# Altium schematic symbol library SCH - ARM CORTEX - STM STM8AL318ATx.SchLib: 1 symbol
Pins are listed as number, name and electrical type; pins without a type are passive.

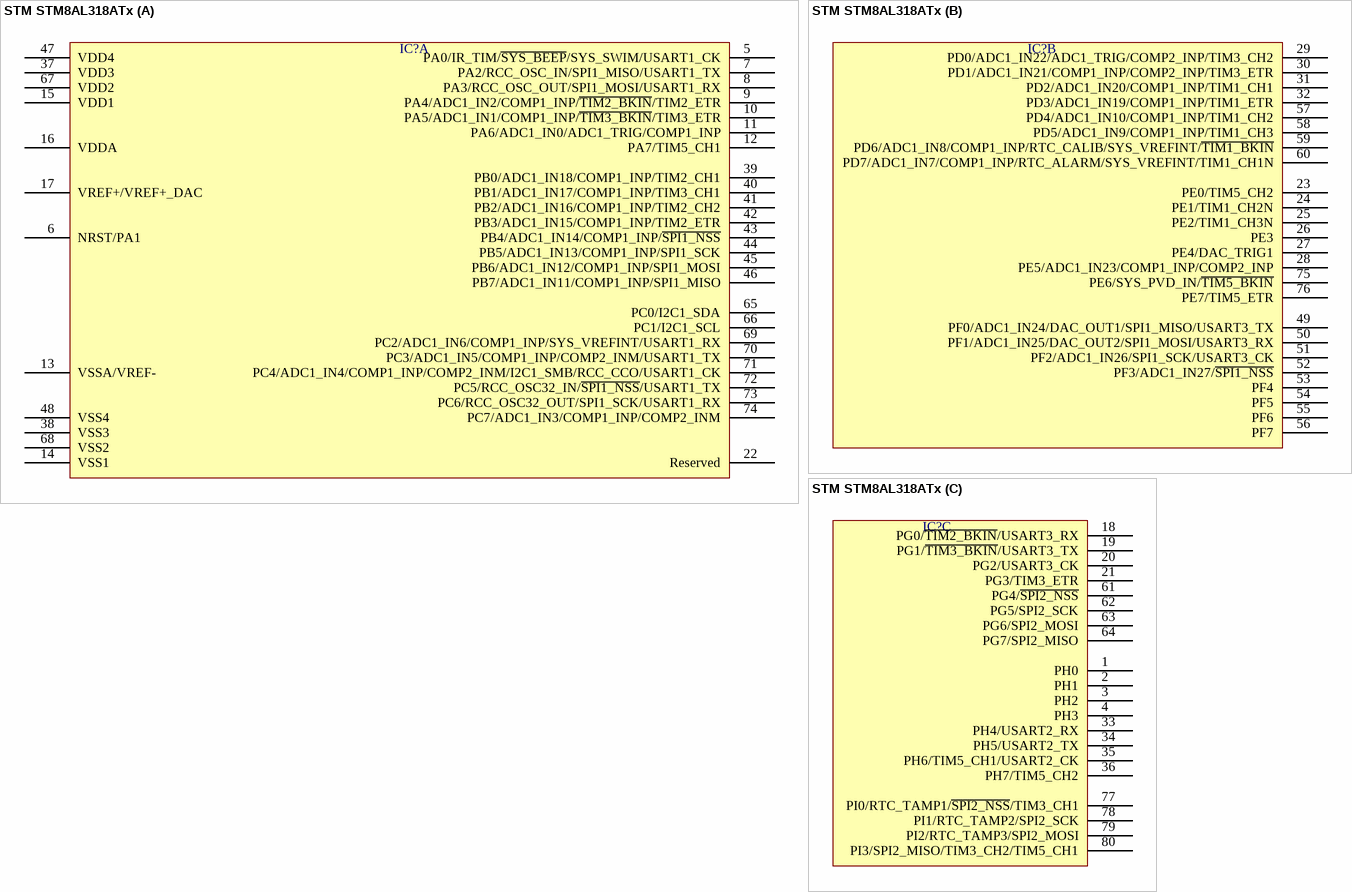
[diagram p0: symbol STM STM8AL318ATx]

## STM STM8AL318ATx
designator IC?  (value not drawn)
part A pins: 5 PA0/IR_TIM/~{SYS_BEEP}/SYS_SWIM/USART1_CK, 6 NRST/PA1, 7 PA2/RCC_OSC_IN/SPI1_MISO/USART1_TX, 8 PA3/RCC_OSC_OUT/SPI1_MOSI/USART1_RX, 9 PA4/ADC1_IN2/COMP1_INP/~{TIM2_BKIN}/TIM2_ETR, 10 PA5/ADC1_IN1/COMP1_INP/~{TIM3_BKIN}/TIM3_ETR, 11 PA6/ADC1_IN0/ADC1_TRIG/COMP1_INP, 12 PA7/TIM5_CH1, 13 VSSA/VREF-, 14 VSS1, 15 VDD1, 16 VDDA, 17 VREF+/VREF+_DAC, 22 Reserved, 37 VDD3, 38 VSS3, 39 PB0/ADC1_IN18/COMP1_INP/TIM2_CH1, 40 PB1/ADC1_IN17/COMP1_INP/TIM3_CH1, 41 PB2/ADC1_IN16/COMP1_INP/TIM2_CH2, 42 PB3/ADC1_IN15/COMP1_INP/TIM2_ETR, 43 PB4/ADC1_IN14/COMP1_INP/~{SPI1_NSS}, 44 PB5/ADC1_IN13/COMP1_INP/SPI1_SCK, 45 PB6/ADC1_IN12/COMP1_INP/SPI1_MOSI, 46 PB7/ADC1_IN11/COMP1_INP/SPI1_MISO, 47 VDD4, 48 VSS4, 65 PC0/I2C1_SDA, 66 PC1/I2C1_SCL, 67 VDD2, 68 VSS2, 69 PC2/ADC1_IN6/COMP1_INP/SYS_VREFINT/USART1_RX, 70 PC3/ADC1_IN5/COMP1_INP/COMP2_INM/USART1_TX, 71 PC4/ADC1_IN4/COMP1_INP/COMP2_INM/I2C1_SMB/RCC_CCO/USART1_CK, 72 PC5/RCC_OSC32_IN/~{SPI1_NSS}/USART1_TX, 73 PC6/RCC_OSC32_OUT/SPI1_SCK/USART1_RX, 74 PC7/ADC1_IN3/COMP1_INP/COMP2_INM
part B pins: 23 PE0/TIM5_CH2, 24 PE1/TIM1_CH2N, 25 PE2/TIM1_CH3N, 26 PE3, 27 PE4/DAC_TRIG1, 28 PE5/ADC1_IN23/COMP1_INP/COMP2_INP, 29 PD0/ADC1_IN22/ADC1_TRIG/COMP2_INP/TIM3_CH2, 30 PD1/ADC1_IN21/COMP1_INP/COMP2_INP/TIM3_ETR, 31 PD2/ADC1_IN20/COMP1_INP/TIM1_CH1, 32 PD3/ADC1_IN19/COMP1_INP/TIM1_ETR, 49 PF0/ADC1_IN24/DAC_OUT1/SPI1_MISO/USART3_TX, 50 PF1/ADC1_IN25/DAC_OUT2/SPI1_MOSI/USART3_RX, 51 PF2/ADC1_IN26/SPI1_SCK/USART3_CK, 52 PF3/ADC1_IN27/~{SPI1_NSS}, 53 PF4, 54 PF5, 55 PF6, 56 PF7, 57 PD4/ADC1_IN10/COMP1_INP/TIM1_CH2, 58 PD5/ADC1_IN9/COMP1_INP/TIM1_CH3, 59 PD6/ADC1_IN8/COMP1_INP/RTC_CALIB/SYS_VREFINT/~{TIM1_BKIN}, 60 PD7/ADC1_IN7/COMP1_INP/RTC_ALARM/SYS_VREFINT/TIM1_CH1N, 75 PE6/SYS_PVD_IN/~{TIM5_BKIN}, 76 PE7/TIM5_ETR
part C pins: 1 PH0, 2 PH1, 3 PH2, 4 PH3, 18 PG0/~{TIM2_BKIN}/USART3_RX, 19 PG1/~{TIM3_BKIN}/USART3_TX, 20 PG2/USART3_CK, 21 PG3/TIM3_ETR, 33 PH4/USART2_RX, 34 PH5/USART2_TX, 35 PH6/TIM5_CH1/USART2_CK, 36 PH7/TIM5_CH2, 61 PG4/~{SPI2_NSS}, 62 PG5/SPI2_SCK, 63 PG6/SPI2_MOSI, 64 PG7/SPI2_MISO, 77 PI0/RTC_TAMP1/~{SPI2_NSS}/TIM3_CH1, 78 PI1/RTC_TAMP2/SPI2_SCK, 79 PI2/RTC_TAMP3/SPI2_MOSI, 80 PI3/SPI2_MISO/TIM3_CH2/TIM5_CH1